# EAGLE library part XR-567P (library exar)
TONE DECODER
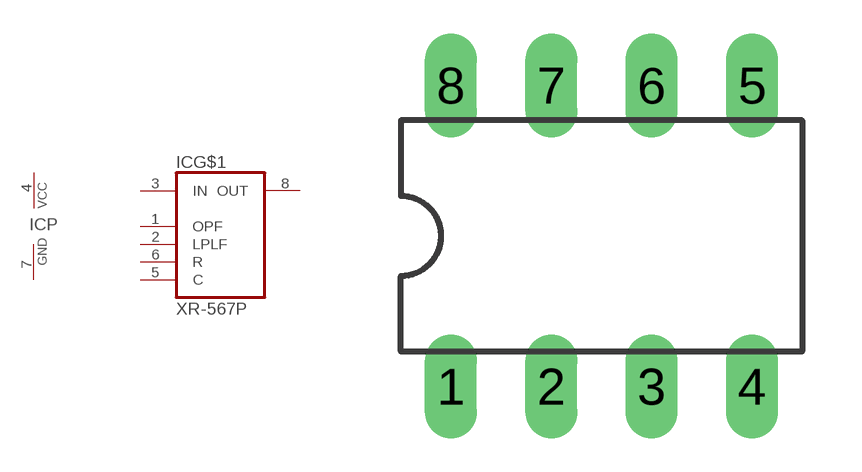
[diagram p107: symbol with the pads of DIL08; footprint DIL08]

Designator prefix IC; gates G$1=XR-567 P=PWRN

## XR-567P (OC_FARNELL: unknown; OC_NEWARK: unknown)  [DIL08]
1  G$1:OPF  in
2  G$1:LPLF  in
3  G$1:IN  in
4  P:VCC  pwr
5  G$1:C  in
6  G$1:R  in
7  P:GND  pwr
8  G$1:OUT  out

## Footprint DIL08 (pad centres in mm)
Dual In Line Package
drill 0.813 long: 1 -3.81,-3.81; 2 -1.27,-3.81; 3 1.27,-3.81; 4 3.81,-3.81; 5 3.81,3.81; 6 1.27,3.81; 7 -1.27,3.81; 8 -3.81,3.81